# EAGLE library part AT89C51-* (library atmel)
8-bit Microcontroller with 4K Bytes Flash Not recommended for new designs. Use AT89S51. Source: http://www.atmel.com/dyn/resources/prod_documents/doc0265.
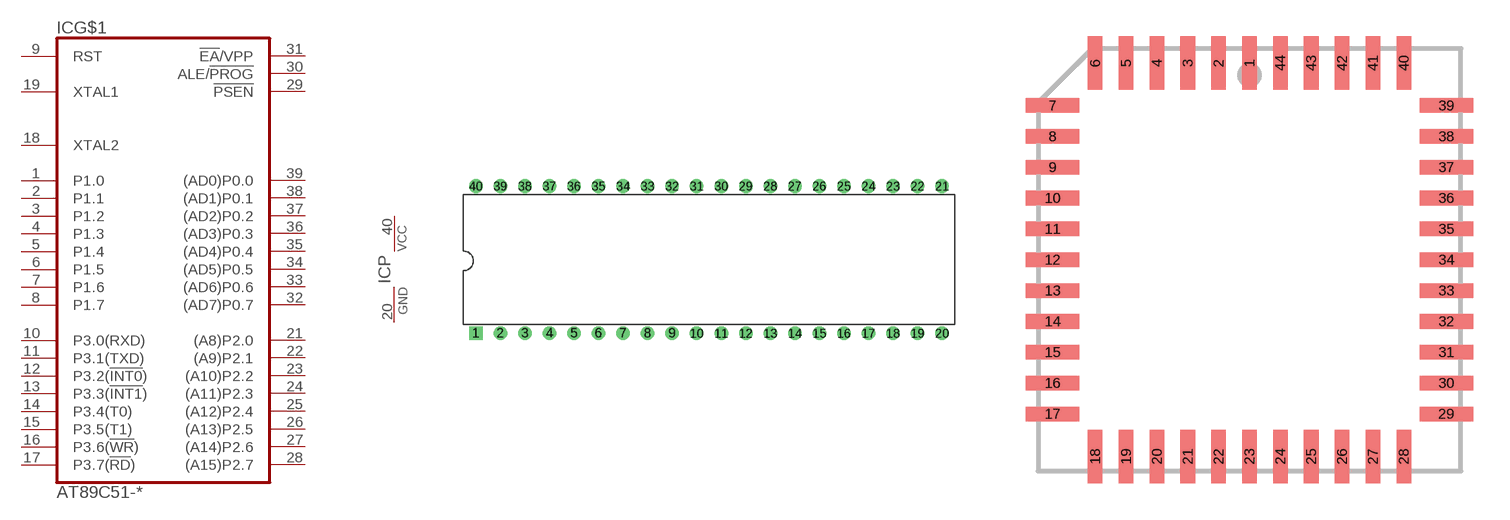
[diagram p10: symbol with the pads of DIL40; footprints DIL40, PLCC44]

Designator prefix IC; gates G$1=AT89C51 P=PWR

## AT89C51-12PC, AT89C51-16PC, AT89C51-20PC, AT89C51-24PC  [DIL40]
1  G$1:P1.0
2  G$1:P1.1
3  G$1:P1.2
4  G$1:P1.3
5  G$1:P1.4
6  G$1:P1.5
7  G$1:P1.6
8  G$1:P1.7
9  G$1:RST  in
10  G$1:P3.0(RXD)
11  G$1:P3.1(TXD)
12  G$1:P3.2(!INT0!)
13  G$1:P3.3(!INT1!)
14  G$1:P3.4(T0)
15  G$1:P3.5(T1)
16  G$1:P3.6(!WR!)
17  G$1:P3.7(!RD!)
18  G$1:XTAL2  in
19  G$1:XTAL1  in
20  P:GND  pwr
21  G$1:(A8)P2.0
22  G$1:(A9)P2.1
23  G$1:(A10)P2.2
24  G$1:(A11)P2.3
25  G$1:(A12)P2.4
26  G$1:(A13)P2.5
27  G$1:(A14)P2.6
28  G$1:(A15)P2.7
29  G$1:!PSEN  out
30  G$1:ALE/!PROG  out
31  G$1:!EA!/VPP  in
32  G$1:(AD7)P0.7
33  G$1:(AD6)P0.6
34  G$1:(AD5)P0.5
35  G$1:(AD4)P0.4
36  G$1:(AD3)P0.3
37  G$1:(AD2)P0.2
38  G$1:(AD1)P0.1
39  G$1:(AD0)P0.0
40  P:VCC  pwr

## AT89C51-12JC, AT89C51-16JC, AT89C51-20JC, AT89C51-24JC  [PLCC44]
2  G$1:P1.0
3  G$1:P1.1
4  G$1:P1.2
5  G$1:P1.3
6  G$1:P1.4
7  G$1:P1.5
8  G$1:P1.6
9  G$1:P1.7
10  G$1:RST  in
11  G$1:P3.0(RXD)
13  G$1:P3.1(TXD)
14  G$1:P3.2(!INT0!)
15  G$1:P3.3(!INT1!)
16  G$1:P3.4(T0)
17  G$1:P3.5(T1)
18  G$1:P3.6(!WR!)
19  G$1:P3.7(!RD!)
20  G$1:XTAL2  in
21  G$1:XTAL1  in
22  P:GND  pwr
24  G$1:(A8)P2.0
25  G$1:(A9)P2.1
26  G$1:(A10)P2.2
27  G$1:(A11)P2.3
28  G$1:(A12)P2.4
29  G$1:(A13)P2.5
30  G$1:(A14)P2.6
31  G$1:(A15)P2.7
32  G$1:!PSEN  out
33  G$1:ALE/!PROG  out
35  G$1:!EA!/VPP  in
36  G$1:(AD7)P0.7
37  G$1:(AD6)P0.6
38  G$1:(AD5)P0.5
39  G$1:(AD4)P0.4
40  G$1:(AD3)P0.3
41  G$1:(AD2)P0.2
42  G$1:(AD1)P0.1
43  G$1:(AD0)P0.0
44  P:VCC  pwr

## AT89C51-12JC(S1), AT89C51-16JC(S1), AT89C51-20JC(S1), AT89C51-24JC(S1)  [PLCC44_S-SMT_3M]
Pads as for PLCC44

## AT89C51-12JC(S2), AT89C51-16JC(S2), AT89C51-20JC(S2), AT89C51-24JC(S2)  [PLCC44_S-THT_1]
Pads as for PLCC44

## AT89C51--12AC, AT89C51--16AC, AT89C51--20AC, AT89C51--24AC  [QFP44_10X10_0.80]
1  G$1:P1.5
2  G$1:P1.6
3  G$1:P1.7
4  G$1:RST  in
5  G$1:P3.0(RXD)
7  G$1:P3.1(TXD)
8  G$1:P3.2(!INT0!)
9  G$1:P3.3(!INT1!)
10  G$1:P3.4(T0)
11  G$1:P3.5(T1)
12  G$1:P3.6(!WR!)
13  G$1:P3.7(!RD!)
14  G$1:XTAL2  in
15  G$1:XTAL1  in
16  P:GND  pwr
17  P:GND  pwr
18  G$1:(A8)P2.0
19  G$1:(A9)P2.1
20  G$1:(A10)P2.2
21  G$1:(A11)P2.3
22  G$1:(A12)P2.4
23  G$1:(A13)P2.5
24  G$1:(A14)P2.6
25  G$1:(A15)P2.7
26  G$1:!PSEN  out
27  G$1:ALE/!PROG  out
29  G$1:!EA!/VPP  in
30  G$1:(AD7)P0.7
31  G$1:(AD6)P0.6
32  G$1:(AD5)P0.5
33  G$1:(AD4)P0.4
34  G$1:(AD3)P0.3
35  G$1:(AD2)P0.2
36  G$1:(AD1)P0.1
37  G$1:(AD0)P0.0
38  P:VCC  pwr
40  G$1:P1.0
41  G$1:P1.1
42  G$1:P1.2
43  G$1:P1.3
44  G$1:P1.4

## AT89C51--12QC, AT89C51--16QC, AT89C51--20QC, AT89C51--24QC  [QFP44_10X10_0.80]
Pads as for QFP44_10X10_0.80

## Footprint DIL40 (pad centres in mm)
DIL package, pin row distance 600mil
drill 0.8 pad 1.4 square: 1 -24.13,-7.62
drill 0.8 pad 1.4: 2 -21.59,-7.62; 3 -19.05,-7.62; 4 -16.51,-7.62; 5 -13.97,-7.62; 6 -11.43,-7.62; 7 -8.89,-7.62; 8 -6.35,-7.62; 9 -3.81,-7.62; 10 -1.27,-7.62; 11 1.27,-7.62; 12 3.81,-7.62; 13 6.35,-7.62; 14 8.89,-7.62; 15 11.43,-7.62; 16 13.97,-7.62; 17 16.51,-7.62; 18 19.05,-7.62; 19 21.59,-7.62; 20 24.13,-7.62; 21 24.13,7.62; 22 21.59,7.62; 23 19.05,7.62; 24 16.51,7.62; 25 13.97,7.62; 26 11.43,7.62; 27 8.89,7.62; 28 6.35,7.62; 29 3.81,7.62; 30 1.27,7.62; 31 -1.27,7.62; 32 -3.81,7.62; 33 -6.35,7.62; 34 -8.89,7.62; 35 -11.43,7.62; 36 -13.97,7.62; 37 -16.51,7.62; 38 -19.05,7.62; 39 -21.59,7.62; 40 -24.13,7.62

## Footprint PLCC44 (pad centres in mm)
square Plastic Leaded Chip Carrier, 14.5mm x 14.5mm body, 50mil lead pitch
smd 0.6 x 2.2: 1 0,8.1; 2 -1.27,8.1; 3 -2.54,8.1; 4 -3.81,8.1; 5 -5.08,8.1; 6 -6.35,8.1; 18 -6.35,-8.1; 19 -5.08,-8.1; 20 -3.81,-8.1; 21 -2.54,-8.1; 22 -1.27,-8.1; 23 0,-8.1; 24 1.27,-8.1; 25 2.54,-8.1; 26 3.81,-8.1; 27 5.08,-8.1; 28 6.35,-8.1; 40 6.35,8.1; 41 5.08,8.1; 42 3.81,8.1; 43 2.54,8.1; 44 1.27,8.1
smd 2.2 x 0.6: 7 -8.1,6.35; 8 -8.1,5.08; 9 -8.1,3.81; 10 -8.1,2.54; 11 -8.1,1.27; 12 -8.1,0; 13 -8.1,-1.27; 14 -8.1,-2.54; 15 -8.1,-3.81; 16 -8.1,-5.08; 17 -8.1,-6.35; 29 8.1,-6.35; 30 8.1,-5.08; 31 8.1,-3.81; 32 8.1,-2.54; 33 8.1,-1.27; 34 8.1,0; 35 8.1,1.27; 36 8.1,2.54; 37 8.1,3.81; 38 8.1,5.08; 39 8.1,6.35

## Footprint PLCC44_S-SMT_3M (pad centres in mm)
socket for square 44 leads PLCC, surface-mount type manufacturer: 3M
smd 0.71 x 1.78: 1 0,8.055; 2 -1.27,8.055; 3 -2.54,8.055; 4 -3.81,8.055; 5 -5.08,8.055; 6 -6.35,8.055; 18 -6.35,-8.055; 19 -5.08,-8.055; 20 -3.81,-8.055; 21 -2.54,-8.055; 22 -1.27,-8.055; 23 0,-8.055; 24 1.27,-8.055; 25 2.54,-8.055; 26 3.81,-8.055; 27 5.08,-8.055; 28 6.35,-8.055; 40 6.35,8.055; 41 5.08,8.055; 42 3.81,8.055; 43 2.54,8.055; 44 1.27,8.055
smd 1.78 x 0.71: 7 -8.055,6.35; 8 -8.055,5.08; 9 -8.055,3.81; 10 -8.055,2.54; 11 -8.055,1.27; 12 -8.055,0; 13 -8.055,-1.27; 14 -8.055,-2.54; 15 -8.055,-3.81; 16 -8.055,-5.08; 17 -8.055,-6.35; 29 8.055,-6.35; 30 8.055,-5.08; 31 8.055,-3.81; 32 8.055,-2.54; 33 8.055,-1.27; 34 8.052,0; 35 8.055,1.27; 36 8.055,2.54; 37 8.055,3.81; 38 8.055,5.08; 39 8.055,6.35

## Footprint PLCC44_S-THT_1 (pad centres in mm)
socket for square 44 leads PLCC, through-hole type
drill 0.8 pad 1.4 octagon: 1 1.27,6.35
drill 0.8 pad 1.4: 2 -1.27,8.89; 3 -1.27,6.35; 4 -3.81,8.89; 5 -3.81,6.35; 6 -6.35,8.89; 7 -8.89,6.35; 8 -6.35,6.35; 9 -8.89,3.81; 10 -6.35,3.81; 11 -8.89,1.27; 12 -6.35,1.27; 13 -8.89,-1.27; 14 -6.35,-1.27; 15 -8.89,-3.81; 16 -6.35,-3.81; 17 -8.89,-6.35; 18 -6.35,-8.89; 19 -6.35,-6.35; 20 -3.81,-8.89; 21 -3.81,-6.35; 22 -1.27,-8.89; 23 -1.27,-6.35; 24 1.27,-8.89; 25 1.27,-6.35; 26 3.81,-8.89; 27 3.81,-6.35; 28 6.35,-8.89; 29 8.89,-6.35; 30 6.35,-6.35; 31 8.89,-3.81; 32 6.35,-3.81; 33 8.89,-1.27; 34 6.35,-1.27; 35 8.89,1.27; 36 6.35,1.27; 37 8.89,3.81; 38 6.35,3.81; 39 8.89,6.35; 40 6.35,8.89; 41 6.35,6.35; 42 3.81,8.89; 43 3.81,6.35; 44 1.27,8.89

## Footprint QFP44_10X10_0.80 (pad centres in mm)
Thin Plasic Quad Flat Package, 10mm x 10mm body, 0.80mm lead pitch JEDEC: MS-026 ACB ATMEL Code: 44A
smd 1.5 x 0.55: 1 -5.7,4; 2 -5.7,3.2; 3 -5.7,2.4; 4 -5.7,1.6; 5 -5.7,0.8; 6 -5.7,0; 7 -5.7,-0.8; 8 -5.7,-1.6; 9 -5.7,-2.4; 10 -5.7,-3.2; 11 -5.7,-4; 23 5.7,-4; 24 5.7,-3.2; 25 5.7,-2.4; 26 5.7,-1.6; 27 5.7,-0.8; 28 5.7,0; 29 5.7,0.8; 30 5.7,1.6; 31 5.7,2.4; 32 5.7,3.2; 33 5.7,4
smd 0.55 x 1.5: 12 -4,-5.7; 13 -3.2,-5.7; 14 -2.4,-5.7; 15 -1.6,-5.7; 16 -0.8,-5.7; 17 0,-5.7; 18 0.8,-5.7; 19 1.6,-5.7; 20 2.4,-5.7; 21 3.2,-5.7; 22 4,-5.7; 34 4,5.7; 35 3.2,5.7; 36 2.4,5.7; 37 1.6,5.7; 38 0.8,5.7; 39 0,5.7; 40 -0.8,5.7; 41 -1.6,5.7; 42 -2.4,5.7; 43 -3.2,5.7; 44 -4,5.7